# Altium schematic symbol library my_heat.SCHLIB: 30 symbols
Pins are listed as number, name and electrical type; pins without a type are passive.

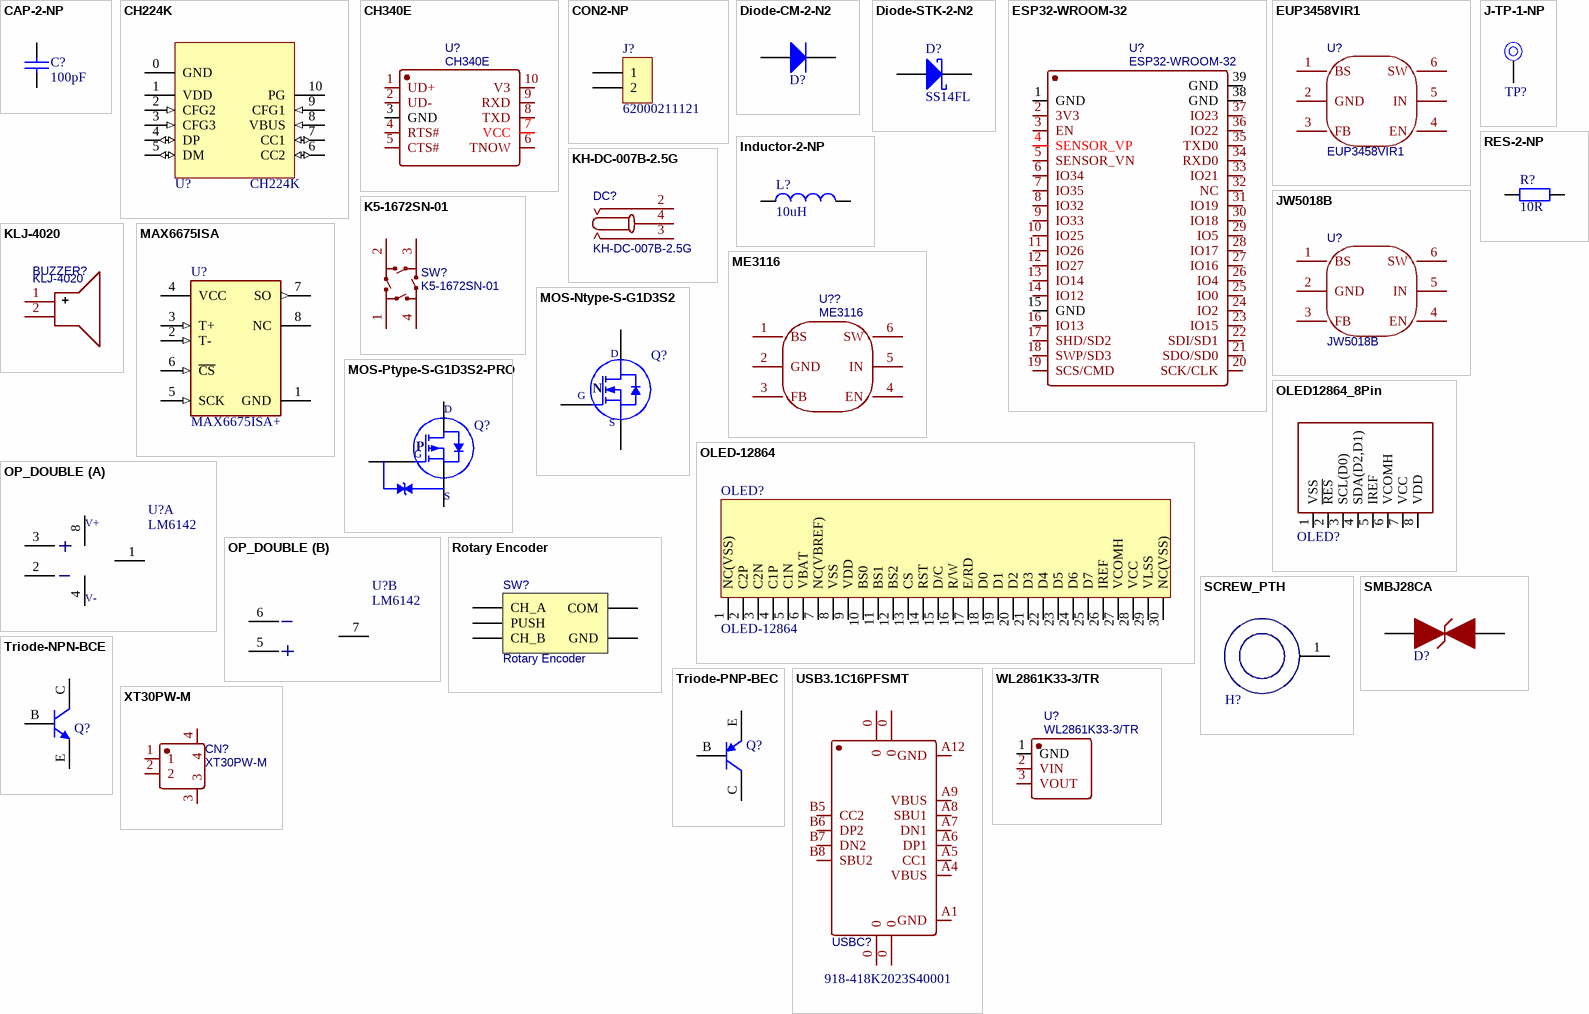
[diagram p0: symbols CAP-2-NP to XT30PW-M]

## CAP-2-NP
designator C?, comment 100pF
SMD,电容量100pF,额定电压50V,偏差±5%,材质NP0,0603; Part Number: 101CC-00004IA.01; Allow Altenative Part: Y; serial number: 195; Categories: 电容; Tolerance: ±5%; Rated Voltage: 50V; Temperature Coefficient: NP0; COMPONENTLINK 1 DESCRIPTION: OpenDatasheet; Modify time: 2018年10月27号; Preferred: P; Category: 贴片电容; Value: 100pF; PACKAGE: Tape&Reel; Mounting Type: SurfaceMount; Size: 0603; Supplier 1: 运泰利; Supplier Part Number 1: 100pF,0603,50V
footprint C0603
pins: 1, 2

## CH224K
designator U?
USB PD & Type-C & Fast Charge Power Consumer Controller
footprint ESSOP10
pins: 0 GND (power), 1 VDD (power), 2 CFG2 (in), 3 CFG3 (in), 4 DP (io), 5 DM (io), 6 CC2 (io), 7 CC1 (io), 8 VBUS (in), 9 CFG1 (in), 10 PG

## CH340E
designator U?
BOM_Manufacturer: WCH; subpart_no: 1; BOM_Supplier: LCSC; BOM_Manufacturer Part: CH340E; BOM_Supplier Part: C99652; BOM_JLCPCB Part Class: Extended Part; spicePre: U; spiceSymbolName: CH340E
footprint MSOP-10_L3.0-W3.0-P0.50-LS5.0-BL
pins: 1 UD+, 2 UD-, 3 GND, 4 RTS#, 5 CTS#, 6 TNOW, 7 VCC, 8 TXD, 9 RXD, 10 V3

## CON2-NP
designator J?, comment 62000211121
DIP,封装脚距2mm,180度,1x2PIN,黑色; Part Number: 102NL-00015BV.01; Allow Altenative Part: Y; serial number: 70; Categories: 连接器; COMPONENTLINK 1 DESCRIPTION: GetDatasheet; Remark: Verified by CRD（赖程奇） check list V1.0; Modify time: 2015年07月10号; Approved: YES; Category: 单排针; Value: 62000211121; PACKAGE: Bulk; Mounting Type: ThroughHole; Supplier 1: wurth; Supplier Part Number 1: 62000211121; Pricing 1: 0.98; COMPONENTLINK 1 URL: http://katalog.we-online.de/en/em/620_0xx_111_21/620_032_111_21?m=n&sp=http%3A%2F%2Fwww.we-online.com%2Fweb%2Fen%2Fwuerth_elektronik%2Fsearchpage.php%3Fsearch%3D62003211121; MOQ: 500
footprint CON2P-2R0-TH
pins: 1, 2

## Diode-CM-2-N2
designator D?, comment 1N4148WT-7  (value not drawn)
SMD,SOD-523（0603）,额定电压80V,电流125mA; Part Number: 101DG-00019AF.01; Allow Altenative Part: Y; serial number: 48; Categories: 二极管; Rated Voltage: 80V; Rated Current: 250mA; COMPONENTLINK 1 DESCRIPTION: GetDatasheet; Remark: Verified by CRD（张宗良） check list V1.0; Modify time: 2015年07月28号; Approved: YES; Preferred: P; Category: 普通二极管; Value: 1N4148WT-7; PACKAGE: Tape&Reel; Mounting Type: SurfaceMount; Supplier 1: DIODES; Supplier Part Number 1: 1N4148WT-7; Pricing 1: 0.36; COMPONENTLINK 1 URL: http://www.diodes.com/datasheets/ds30396.pdf; MOQ: 1000
footprint SOD-523
pins: 1, 2

## Diode-STK-2-N2
designator D?, comment SS14FL
SMD,封装外壳SOD-123-2,额定电压40V,电流1A; Part Number: 101DS-00017AI.01; Allow Altenative Part: Y; serial number: 98; Categories: 二极管; Rated Voltage: 40V; Rated Current: 1A; COMPONENTLINK 1 DESCRIPTION: GetDatasheet; Remark: Verified by CRD（李思奇） check list V3.0; Modify time: 2017年03月20号; Approved: YES; Category: 肖特基二极管; Value: SS14FL; PACKAGE: Tape&Reel; Mounting Type: SurfaceMount; Supplier 1: Fairchild; Supplier Part Number 1: SS14FL; Pricing 1: 1.28; COMPONENTLINK 1 URL: https://www.fairchildsemi.com/datasheets/SS/SS13FL.pdf
footprint SOD-123FL
pins: 1, 2

## ESP32-WROOM-32
designator U?
BOM_Manufacturer: Espressif Systems; Contributor: LCSC; BOM_Supplier: LCSC; BOM_Supplier Part: C82899; BOM_Manufacturer Part: ESP32-WROOM-32; BOM_JLCPCB Part Class: Extended Part; spicePre: U; spiceSymbolName: ESP32-WROOM-32
footprint WIFIM-SMD_ESP-32S
pins: 1 GND, 2 3V3, 3 EN, 4 SENSOR_VP, 5 SENSOR_VN, 6 IO34, 7 IO35, 8 IO32, 9 IO33, 10 IO25, 11 IO26, 12 IO27, 13 IO14, 14 IO12, 15 GND, 16 IO13, 17 SHD/SD2, 18 SWP/SD3, 19 SCS/CMD, 20 SCK/CLK, 21 SDO/SD0, 22 SDI/SD1, 23 IO15, 24 IO2, 25 IO0, 26 IO4, 27 IO16, 28 IO17, 29 IO5, 30 IO18, 31 IO19, 32 NC, 33 IO21, 34 RXD0, 35 TXD0, 36 IO22, 37 IO23, 38 GND, 39 GND

## EUP3458VIR1
designator U?
BOM_Manufacturer: EUTECH; BOM_Supplier: LCSC; BOM_Manufacturer Part: EUP3458VIR1; BOM_Supplier Part: C89300; BOM_JLCPCB Part Class: Extended Part; spicePre: U; spiceSymbolName: EUP3458VIR1
footprint SOT-23-6_L2.9-W1.6-P0.95-LS2.8-BR
pins: 1 BS, 2 GND, 3 FB, 4 EN, 5 IN, 6 SW

## Inductor-2-NP
designator L?, comment 10uH
安装方式SMD,电感值10uH,精度±20%,额定电流1.5A,屏蔽式,4.45x4.06x1.8mm; Part Number: 101LP-00508BV.01; Allow Altenative Part: Y; serial number: 194; Categories: 电感; Tolerance: ±20%; Rated Current: 1.5A; COMPONENTLINK 1 DESCRIPTION: OpenDatasheet; Modify time: 2019年8月10号; Category: 功率电感; Value: 10uH; PACKAGE: Tape&Reel; Mounting Type: SurfaceMount; Size: 4.45x4.06x1.8mm; Supplier 1: Wurth; Supplier Part Number 1: 74437324100; COMPONENTLINK 1 URL: https://katalog.we-online.com/pbs/datasheet/74437324100.pdf
footprint IND4R45X4R06X1-2
pins: 1, 2

## J-TP-1-NP
designator TP?, comment 5001  (value not drawn)
安装方式DIP，材质磷青铜镀银，塑高/针长3.05/3.05mm，耐压值无，黑色，直径2.54mmx4.57mm; Part Number: 102NJ-00012AU.01; Allow Altenative Part: Y; serial number: 851; Categories: 连接器; COMPONENTLINK 1 DESCRIPTION: GetDatasheet; Modify time: 2019年9月28号; Category: 测试点; Value: 5001; PACKAGE: Bulk; Mounting Type: ThroughHole; Supplier 1: Keystone; Supplier Part Number 1: 5001
footprint TP-2R54-TH
pins: 1

## JW5018B
designator U?
40V 600mA 800kHz Sync Buck; BOM_Manufacturer: JOULWATT; BOM_Supplier: LCSC; BOM_Manufacturer Part: JW5018B; BOM_JLCPCB Part Class: Extended Part; spiceSymbolName: JW5018B
footprint SOT-23-6_L2.9-W1.6-P0.95-LS2.8-BR
pins: 1 BS, 2 GND, 3 FB, 4 EN, 5 IN, 6 SW

## K5-1672SN-01
designator SW?
BOM_Manufacturer: Korean Hroparts Elec; Contributor: LCSC; BOM_Supplier: LCSC; BOM_Supplier Part: C502360; BOM_Manufacturer Part: K5-1672SN-01; BOM_JLCPCB Part Class: Extended Part; spicePre: S; spiceSymbolName: K5-1672SN-01
footprint SW-SMD_K5-1672SN-01
pins: 1, 2, 3, 4

## KH-DC-007B-2.5G
designator DC?
BOM_Manufacturer: kinghelm(金航标); Contributor: LCSC; BOM_Supplier: LCSC; BOM_Supplier Part: C2847176; BOM_Manufacturer Part: KH-DC-007B-2.5G; BOM_JLCPCB Part Class: Extended Part; spicePre: D; spiceSymbolName: KH-DC-007B-2.5G
footprint DC-IN-TH_KH-DC-007B-2.1G
pins: 2, 3, 4

## KLJ-4020
designator BUZZER?
BOM_Manufacturer: KELIKING; Contributor: LCSC; Frequency: 4kHz; BOM_Supplier: LCSC; BOM_Supplier Part: C556936; BOM_Manufacturer Part: KLJ-4020; BOM_JLCPCB Part Class: Extended Part; spicePre: B; spiceSymbolName: KLJ-4020
footprint BUZ-SMD_L4.0-W4.0-P3.50-L
pins: 1 +, 2 -

## MAX6675ISA
designator U?  Part Number: MAX6675ISA+  (hidden comment: MAX6675ISA)
IC THERMOCOUP TO DGTL 8-SOIC; Manufacturer: Maxim Electronics; Category 9E07530Daf1645C0: Semiconductors and Actives; Category 3Cb8F1B20D37E77F: Sensors (Acceleration, Pressure, ...); Category 8A76477Cb9Bd51B1: Temperature Control and Regulation; Category 84F649Fcb0Ed5F31: Uncategorized; max_supply_voltage_dc: 5.50V; Category D46C1966E09E0Fab: Temperature; Category Db391633E8F300Fe: Industrial Control; Category C33B0E31F09B18Fc: Temperature Sensor ICs; Mfg Package Ident: 21-0041; Category E95E2454Daf93299: Temperature Sensing/Measurement; Category 2Fc5E2Cf1B85F402: Interface ICs; Category 6B95A69F5F75B052: Sensors and Accessories; Symbol 0 0: Standard; Num Pins: 8; supply_current: 0.70 mA; helpURL: https://upverter.com/upn/revision/df8f98e99e77f28c/; ComponentLink2Description: Datasheet; Temperature: -20°C to +85°C; Package: 21-0041; Supplier 2: Mouser; Supplier 1: Digi-Key; ComponentLink1URL: https://upverter.com/upn/revision/df8f98e99e77f28c/; Supplier Part Number 2: 700-MAX6675ISA; Supplier Part Number 1: MAX6675ISA+-ND; ComponentLink1Description: Upverter; ComponentLink2URL: https://upverter.com/datasheet/328f41e80cd5fba93d602566d8324382201f26da.pdf; RoHS: TRUE; Temperature Range High: +85°C; Octopart Part Number: 33bcfab92ad8ec7b; Digikey Description: IC THERMOCOUP TO DGTL 8-SOIC; Digikey Part Number: MAX6675ISA+-ND; Lead Free: yes; Type: integrated circuit; Category 20B3Edb914A9Fb74: Uncategorized; Mouser Part Number: 700-MAX6675ISA; Temperature Range Low: -20°C; Category 3B3Df6370Ab4E0Fa: Temperature Sensor ICs; Mounting Type: surface mount; Ipc Land Pattern Name: SOIC127P600X155-8
footprint SOIC8-1R27-5X4 (SOIC, 8-Leads, Body 4.90x3.85mm, Pitch 1.27mm, IPC Medium Density)
pins: 1 GND (power), 2 T- (in), 3 T+ (in), 4 VCC (power), 5 SCK (in), 6 ~{CS} (in), 7 SO (out), 8 NC

## ME3116
designator U??
BOM_Manufacturer: MICRONE; BOM_Supplier: LCSC; BOM_Manufacturer Part: ME3116; BOM_Supplier Part: C97643; BOM_JLCPCB Part Class: Extended Part; spicePre: U; spiceSymbolName: ME3116
footprint SOT-23-6_L2.9-W1.6-P0.95-LS2.8-BR
pins: 1 BS, 2 GND, 3 FB, 4 EN, 5 IN, 6 SW

## MOS-Ntype-S-G1D3S2
designator Q?
SMD,封装方式TO263-3,额定电压60V,耗散功率110W,Vgs ±20V,额定电流79A; Part Number: 101MN-00036AM.01; Allow Altenative Part: Y; serial number: 42; Categories: MOS管; Rated Power: 110W; Rated Voltage: 60V; Rated Current: 79A; Other: Vgs:±20V; COMPONENTLINK 1 DESCRIPTION: OpenDatasheet; Remark: Verified by CRD（陈佳莺） check list V5.0; Modify time: 2017年06月12号; Approved: YES; Preferred: P; Category: N型MOS管; PACKAGE: Tape&Reel; Mounting Type: SurfaceMount; Size: TO263-3; Supplier 1: Infineon; COMPONENTLINK 1 URL: http://www.infineon.com/dgdl/irf1018epbf.pdf?fileId=5546d462533600a4015355da854e1891
footprint D2PAK-3-GDS
pins: D, G, S
text: N

## MOS-Ptype-S-G1D3S2-PRO
designator Q?, comment CPH3355-TL-W  (value not drawn)
安装方式SMD,封装方式SOT-23,额定电压-30V,耗散功率1.0W,Vgs-2.6V,额定电流-2.5A; Part Number: 101MP-00024BA.01; Allow Altenative Part: Y; serial number: 76; Categories: MOS管; Rated Power: 1.0W; Rated Voltage: -30V; Rated Current: -2.5A; COMPONENTLINK 1 DESCRIPTION: OpenDatasheet; Modify time: 2018年11月24号; Preferred: P; Category: P型MOS管; Value: CPH3355-TL-W; Other: Vgs-2.6V; PACKAGE: Tape&Reel; Mounting Type: SurfaceMount; Supplier 1: ON; Supplier Part Number 1: CPH3355-TL-W; COMPONENTLINK 1 URL: http://www.mouser.cn/datasheet/2/308/CPH3355-D-918319.pdf
footprint SOT-23-GDS
pins: D, G, S

## OLED12864_8Pin
designator OLED?  (value not drawn)
footprint OLED_0.69_8Pin
pins: 1 VSS, 2 ~{RES}, 3 SCL(D0), 4 SDA(D2,D1), 5 IREF, 6 VCOMH, 7 VCC, 8 VDD

## OLED-12864
designator OLED?
显示屏
footprint OLED-12864
footprint OLED-12864-TOP
footprint OLED-12864-1.3-TOP
pins: 1 NC(VSS), 2 C2P, 3 C2N, 4 C1P, 5 C1N, 6 VBAT, 7 NC(VBREF), 8 VSS, 9 VDD, 10 BS0, 11 BS1, 12 BS2, 13 CS, 14 RST, 15 D/C, 16 R/W, 17 E/RD, 18 D0, 19 D1, 20 D2, 21 D3, 22 D4, 23 D5, 24 D6, 25 D7, 26 IREF, 27 VCOMH, 28 VCC, 29 VLSS, 30 NC(VSS)

## OP_DOUBLE
designator U?, comment LM6142
安装方式SMD,SOIC-8,8PIN,运算放大器,; Part Number: 101IF-00039BK.01; Allow Altenative Part: Y; serial number: 63; Categories: IC; COMPONENTLINK 1 DESCRIPTION: OpenDatasheet; Remark: Verified by BU2（叶俊雄） check list V1.0; Modify time: 2015年07月10号; Approved: YES; Category: 运放IC; Value: LM6142; PACKAGE: Tape&Reel; Mounting Type: SurfaceMount; Supplier 1: TI; Supplier Part Number 1: LM6142; Pricing 1: 0.59; MOQ: 2500
footprint SOIC8-1R27-5X4
part A pins: 1 OUT A, 2 -IN A, 3 +IN A, 4 V- (power), 8 V+ (power)
part B pins: 5 +INB, 6 -IN B, 7 OUT B

## RES-2-NP
designator R?, comment 10R
SMD,阻值10R,精度±1%,0603,额定功率1/10W; Part Number: 101RC-00016IA.01; Allow Altenative Part: Y; serial number: 451; Categories: 电阻; Tolerance: ±1%; Rated Power: 1/10W; COMPONENTLINK 1 DESCRIPTION: OpenDatasheet; Modify time: 2018年10月29号; Preferred: P; Category: 贴片电阻; Value: 10R; PACKAGE: Tape&Reel; Mounting Type: SurfaceMount; Size: 0603; Supplier 1: 运泰利; Supplier Part Number 1: 10R,0603,±1%
footprint R0603
pins: 1, 2

## Rotary Encoder
designator SW?
SIQ-02FVS3; BOM_Manufacturer: ALPSALPINE; BOM_Manufacturer Part: EC11E1534443; Contributor: LCSC; BOM_Supplier: LCSC; BOM_Supplier Part: C1322543; BOM_JLCPCB Part Class: Extended Part; spicePre: S; spiceSymbolName: EC11E1534443
footprint SIQ-02FVS3
pins: 1 CH_A, 2 PUSH, 3 COM, 4 CH_B, 5 GND

## SCREW_PTH
designator H?
Part Number: M1.6-PTH; Allow Altenative Part: Y; serial number: 9; Categories: 符号; Modify time: 2017年2月13日; Approved: YES; Category: SCREW; Supplier 1: CRD
footprint THC3R5D1R6-M1R6-PTH
pins: 1

## SMBJ28CA
designator D?, comment SMBJ33CA  (value not drawn)
footprint SMBJ-CA_MFG
pins: 1, 2

## Triode-NPN-BCE
designator Q?, comment MMBT2222ALT1G  (value not drawn)
SMD,封装形式SOT-23,耐压值40V,额定电流600mA,耗散功率225mW; Part Number: 101GN-00006BA.01; Allow Altenative Part: Y; serial number: 10; Categories: 三极管; Rated Power: 225mW; Rated Voltage: 40V; Rated Current: 600mA; COMPONENTLINK 1 DESCRIPTION: OpenDatasheet; Remark: Verified by BU1（吴明徽）check list V1.0; Modify time: 2017年01月07号; Approved: YES; Preferred: P; Category: NPN三极管; Value: MMBT2222ALT1G; PACKAGE: Tape&Reel; Mounting Type: SurfaceMount; Size: SOT-23; Supplier 1: ON; Supplier Part Number 1: MMBT2222ALT1G
footprint SOT-23-BCE
pins: B, C, E

## Triode-PNP-BEC
designator Q?, comment MMBT4403  (value not drawn)
SMD,封装形式SOT-23,耐压值40V,额定电流600mA,耗散功率300W; Part Number: 101GP-00002DC.01; Allow Altenative Part: Y; serial number: 5; Categories: 三极管; Rated Power: 300mW; Rated Voltage: 40V; Rated Current: 600mA; COMPONENTLINK 1 DESCRIPTION: OpenDatasheet; Remark: Verified by BU1（吴明徽）check list V1.0; Modify time: 2016年05月12号; Approved: YES; Preferred: P; Category: PNP三极管; Value: MMBT4403; PACKAGE: Tape&Reel; Mounting Type: SurfaceMount; Size: SOT-23; Supplier 1: 长电科技; Supplier Part Number 1: MMBT4403; Pricing 1: 0.27; COMPONENTLINK 1 URL: http://www.cj-elec.com/gallery/txUpfile/b230a503159d7ae6350c54e4b05a58ed.pdf; MOQ: 3000
footprint SOT-23-BCE
pins: B, C, E

## USB3.1C16PFSMT
designator USBC?  value 918-418K2023S40001  (hidden comment: USB3.1C16PFSMT)
BOM_Manufacturer: LCSC; BOM_Supplier: LCSC; BOM_Supplier Part: C167321; BOM_Manufacturer Part: -; Contributor: LCSC; BOM_JLCPCB Part Class: Extended Part; spicePre: U; spiceSymbolName: USB3.1C16PFSMT; Supplier Part Number 1: 918-418K2023S40001; Supplier 1: 精拓金
footprint USB-C-SMD_TYPE-C-USB-17
pins: 0, 0, 0, 0, A1 GND, A4 VBUS, A5 CC1, A6 DP1, A7 DN1, A8 SBU1, A9 VBUS, A12 GND, B5 CC2, B6 DP2, B7 DN2, B8 SBU2

## WL2861K33-3/TR
designator U?
BOM_Manufacturer: WILLSEMI(Will Semicon); Contributor: LCSC; BOM_Supplier: LCSC; BOM_Supplier Part: C910985; BOM_Manufacturer Part: WL2861K33-3/TR; BOM_JLCPCB Part Class: Extended Part; spicePre: U; spiceSymbolName: WL2861K33-3/TR
footprint SOT-89-3_L4.5-W2.5-P1.50-LS4.2-BR
pins: 1 GND, 2 VIN, 3 VOUT

## XT30PW-M
designator CN?
BOM_Manufacturer: Changzhou Amass Elec; Contributor: LCSC; BOM_Supplier: LCSC; BOM_Supplier Part: C431092; BOM_Manufacturer Part: XT30PW-M; BOM_JLCPCB Part Class: Extended Part; spicePre: C; spiceSymbolName: XT30PW-M
footprint CONN-TH_XT30PW-M
pins: 1, 2, 3, 4